# EAGLE library part WING32 (library Papilio)
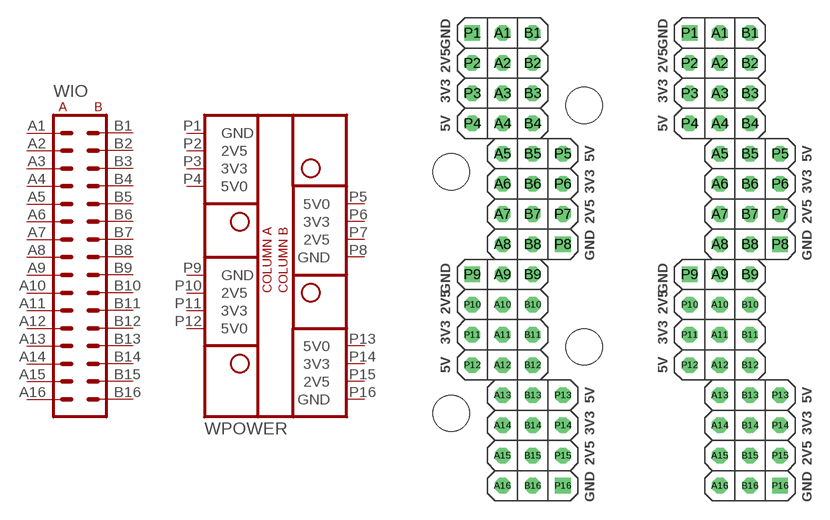
[diagram p0: symbol with the pads of WING32_HOLES; footprints WING32_HOLES, WING32_NOHOLES]

Designator prefix W; gates IO=WING32_IO POWER=WING32_POWER

## WING32  [WING32_HOLES]
A1  IO:A1
A2  IO:A2
A3  IO:A3
A4  IO:A4
A5  IO:A5
A6  IO:A6
A7  IO:A7
A8  IO:A8
A9  IO:A9
A10  IO:A10
A11  IO:A11
A12  IO:A12
A13  IO:A13
A14  IO:A14
A15  IO:A15
A16  IO:A16
B1  IO:B1
B2  IO:B2
B3  IO:B3
B4  IO:B4
B5  IO:B5
B6  IO:B6
B7  IO:B7
B8  IO:B8
B9  IO:B9
B10  IO:B10
B11  IO:B11
B12  IO:B12
B13  IO:B13
B14  IO:B14
B15  IO:B15
B16  IO:B16
P1  POWER:GND  pwr
P2  POWER:2V5  pas
P3  POWER:3V3  pas
P4  POWER:5V0  pas
P5  POWER:5V0  pas
P6  POWER:3V3  pas
P7  POWER:2V5  pas
P8  POWER:GND  pwr
P9  POWER:GND  pwr
P10  POWER:2V5  pas
P11  POWER:3V3  pas
P12  POWER:5V0  pas
P13  POWER:5V0  pas
P14  POWER:3V3  pas
P15  POWER:2V5  pas
P16  POWER:GND  pwr

## WING32NOHOLES  [WING32_NOHOLES]
Pads as for WING32_HOLES

## Footprint WING32_HOLES (pad centres in mm)
drill 0.8 octagon: A1 -1.27,19.05; A2 -1.27,16.51; A3 -1.27,13.97; A4 -1.27,11.43; A5 -1.27,8.89; A6 -1.27,6.35; A7 -1.27,3.81; A8 -1.27,1.27; A9 -1.27,-1.27; A10 -1.27,-3.81; A11 -1.27,-6.35; A12 -1.27,-8.89; A13 -1.27,-11.43; A14 -1.27,-13.97; A15 -1.27,-16.51; A16 -1.27,-19.05; B1 1.27,19.05; B2 1.27,16.51; B3 1.27,13.97; B4 1.27,11.43; B5 1.27,8.89; B6 1.27,6.35; B7 1.27,3.81; B8 1.27,1.27; B9 1.27,-1.27; B10 1.27,-3.81; B11 1.27,-6.35; B12 1.27,-8.89; B13 1.27,-11.43; B14 1.27,-13.97; B15 1.27,-16.51; B16 1.27,-19.05; P2 -3.81,16.51; P3 -3.81,13.97; P4 -3.81,11.43; P5 3.81,8.89; P6 3.81,6.35; P7 3.81,3.81; P10 -3.81,-3.81; P11 -3.81,-6.35; P12 -3.81,-8.89; P13 3.81,-11.43; P14 3.81,-13.97; P15 3.81,-16.51
drill 0.8 square: P1 -3.81,19.05; P8 3.81,1.27; P9 -3.81,-1.27; P16 3.81,-19.05
hole 3.048 at -5.588,-12.954
hole 3.048 at 5.588,-7.366
hole 3.048 at -5.588,7.366
hole 3.048 at 5.588,12.954

## Footprint WING32_NOHOLES (pad centres in mm)
drill 0.8 octagon: A1 -1.27,19.05; A2 -1.27,16.51; A3 -1.27,13.97; A4 -1.27,11.43; A5 -1.27,8.89; A6 -1.27,6.35; A7 -1.27,3.81; A8 -1.27,1.27; A9 -1.27,-1.27; A10 -1.27,-3.81; A11 -1.27,-6.35; A12 -1.27,-8.89; A13 -1.27,-11.43; A14 -1.27,-13.97; A15 -1.27,-16.51; A16 -1.27,-19.05; B1 1.27,19.05; B2 1.27,16.51; B3 1.27,13.97; B4 1.27,11.43; B5 1.27,8.89; B6 1.27,6.35; B7 1.27,3.81; B8 1.27,1.27; B9 1.27,-1.27; B10 1.27,-3.81; B11 1.27,-6.35; B12 1.27,-8.89; B13 1.27,-11.43; B14 1.27,-13.97; B15 1.27,-16.51; B16 1.27,-19.05; P2 -3.81,16.51; P3 -3.81,13.97; P4 -3.81,11.43; P5 3.81,8.89; P6 3.81,6.35; P7 3.81,3.81; P10 -3.81,-3.81; P11 -3.81,-6.35; P12 -3.81,-8.89; P13 3.81,-11.43; P14 3.81,-13.97; P15 3.81,-16.51
drill 0.8 square: P1 -3.81,19.05; P8 3.81,1.27; P9 -3.81,-1.27; P16 3.81,-19.05